# Altium schematic symbol library AI Gateway - Carrier.SCHLIB: 93 symbols
Pins are listed as number, name and electrical type; pins without a type are passive.

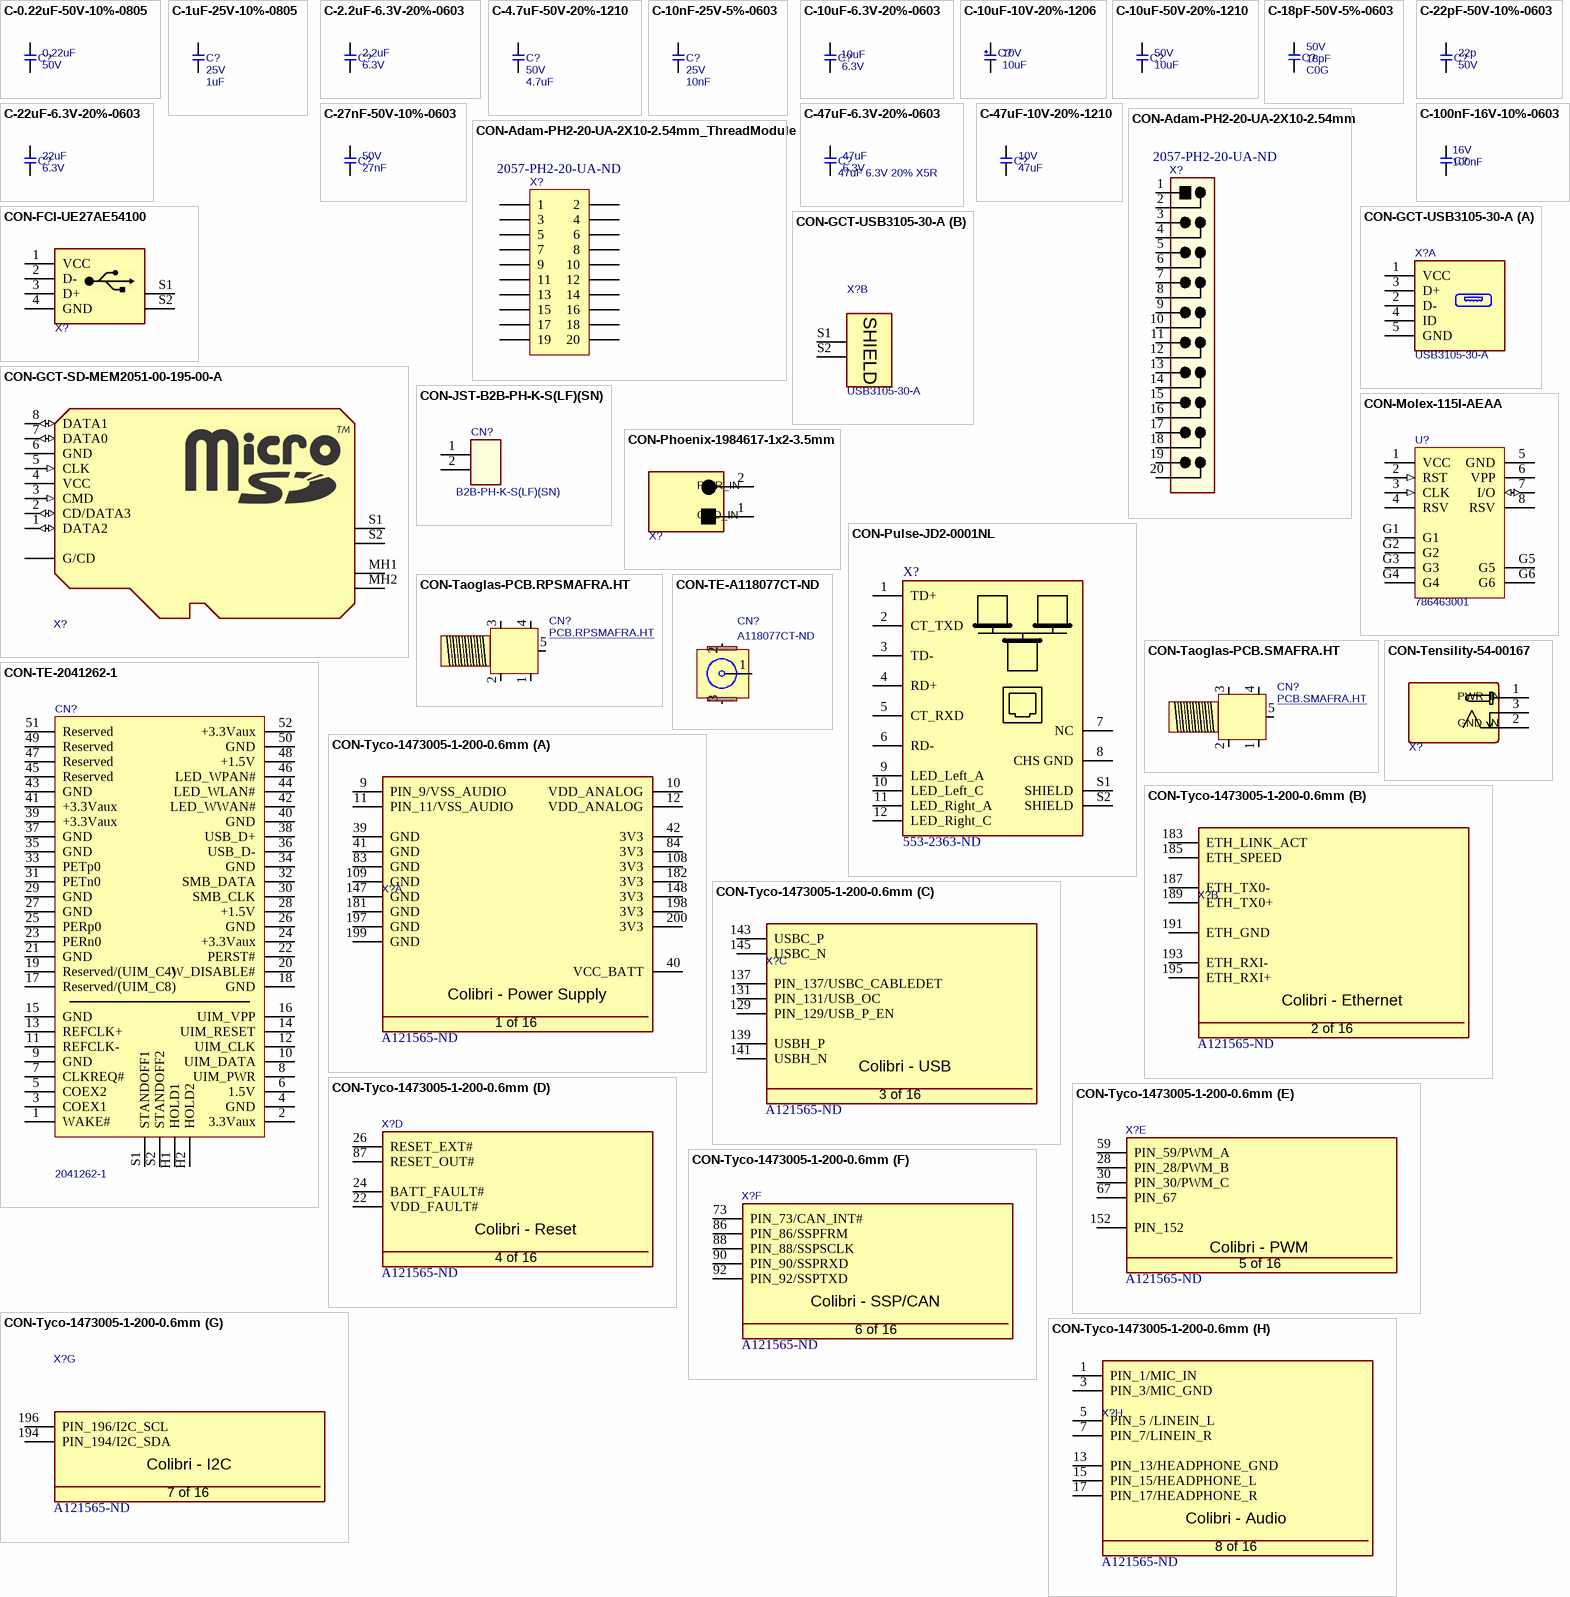
[diagram p0: symbols C-0.22uF-50V-10%-0805 to CON-Tyco-1473005-1-200-0.6mm]

## C-0.22uF-50V-10%-0805
designator C?, comment value 0.22uF  Rating: 50V  (hidden comment: 0.22uF 50V 10% X7R)
Capacitor Ceramic X7R 0.22uF 50V 10% 0805; FP_DESC: C0805; Tolerance: 10%; Type: X7R; Supplier 1: Digi-Key; Supplier Part Number 1: 1276-1093-1-ND; MFG_PN: *; MFG: *
footprint T_CAPC0805X125N
pins: 1, 2

## C-1uF-25V-10%-0805
designator C?, comment value 1uF  Rating: 25V  (hidden comment: 1uF 25V 10% X7R)
Capacitor Ceramic X7R 1uF 25V 10% 0805; FP_DESC: C0805; Tolerance: 10%; Type: X7R; Supplier 1: Digi-Key; Supplier Part Number 1: 399-8004-1-ND; MFG: *; MFG_PN: *
footprint T_CAPC0805X125N
pins: 1, 2

## C-2.2uF-6.3V-20%-0603
designator C?, comment value 2.2uF  Rating: 6.3V  (hidden comment: 2.2uF 6.3V 20% X5R)
Capacitor Ceramic X5R 2.2uF 6.3V 20% 0603; FP_DESC: C0603; Tolerance: 20%; Type: X5R; MFG: *; MFG_PN: *; Supplier 1: Digi-Key; Supplier Part Number 1: 311-1814-1-ND
footprint T_CAPC0603X33N
pins: 1, 2

## C-4.7uF-50V-20%-1210
designator C?, comment value 4.7uF  Rating: 50V  (hidden comment: 4.7uF 50V 20% X7R)
Capacitor Ceramic X7R 4.7uF 50V 20% 1206; Tolerance: 10%; FP_DESC: C1206; Type: X7R; Supplier 1: Digi-Key; Supplier Part Number 1: 1276-2789-1-ND; MFG: *; MFG_PN: *
footprint T_CAPC1206X180N (Ceramic Capacitor 1206 (3216 metric), max height 1.8mm)
pins: 1, 2

## C-10nF-25V-5%-0603
designator C?, comment value 10nF  Rating: 25V  (hidden comment: 10nF 25V 5% C0G)
Capacitor Ceramic C0G 10nF 25V 5% 0603; Tolerance: 10%; Type: X7R; Supplier 1: Digi-Key; Supplier Part Number 1: 399-7838-1-ND
footprint T_CAPC0603X33N
pins: 1, 2

## C-10uF-6.3V-20%-0603
designator C?, comment value 10uF  Rating: 6.3V  (hidden comment: 10uF 6.3V 20% X5R)
Capacitor Ceramic X5R 10uF 6.3V 20% 0603; Type: X7R; FP_DESC: C0603; Tolerance: 20%; Supplier 1: Digi-Key; MFG: *; MFG_PN: *; Supplier Part Number 1: 490-3896-1-ND
footprint T_CAPC0603X33N
pins: 1, 2

## C-10uF-10V-20%-1206
designator C?, comment value 10uF  Rating: 10V  (hidden comment: 10uF 10V 20% Tantalum)
Capacitor Tantalum 10uF 10V 20% 1206; FP_DESC: C1206; Tolerance: 20%; Type: Tantalum; Supplier 1: Digi-Key; MFG: *; MFG_PN: *; Supplier Part Number 1: 478-1657-1-ND
footprint T_CAPC1206X180N (Ceramic Capacitor 1206 (3216 metric), max height 1.8mm)
pins: 1, 2

## C-10uF-50V-20%-1210
designator C?, comment value 10uF  Rating: 50V  (hidden comment: 10uF 50V 20% X5R)
Capacitor Ceramic X5R 10uF 50V 20% 1210; Type: X7R; FP_DESC: C1210; Tolerance: 20%; Supplier 1: Digi-Key; Supplier Part Number 1: 587-2225-1-ND; Footprint: C1210; MFG: *; MFG_PN: *
footprint CAPC3225X160N
pins: 1, 2

## C-18pF-50V-5%-0603
designator C?, comment value 18pF  Rating: 50V  Type: C0G  (hidden comment: 18pF 50V 5% C0G)
Capacitor Ceramic C0G 18pF 50V 5% 0603; FP_DESC: C0603; Tolerance: 5%; Supplier 1: Digi-Key; Supplier Part Number 1: 311-1061-1-ND; MFG: *; MFG_PN: *
footprint T_CAPC0603X33N
pins: 1, 2

## C-22pF-50V-10%-0603
designator C?, comment value 22p  Rating: 50V  (hidden comment: 22pF 50V 10% C0G)
Capacitor Ceramic C0G 22pF 50V 10% 0603; FP_DESC: C0603; Tolerance: 10%; Type: C0G; MFG: *; MFG_PN: *; Supplier 1: Digi-Key; Supplier Part Number 1: 478-7914-1-ND
footprint T_CAPC0603X33N
pins: 1, 2

## C-22uF-6.3V-20%-0603
designator C?, comment value 22uF  Rating: 6.3V  (hidden comment: 22uF 6.3V 20% X5R)
Capacitor Ceramic X5R 22uF 6.3V 20% 0603; FP_DESC: C0603; Tolerance: 20%; Type: X5R; Supplier 1: Digi-Key; Supplier Part Number 1: 445-8028-1-ND; MFG: *; MFG_PN: *
footprint T_CAPC0603X33N
pins: 1, 2

## C-27nF-50V-10%-0603
designator C?, comment value 27nF  Rating: 50V  (hidden comment: 27nF 50V 20% X7R)
Capacitor Ceramic X7R 27nF 50V 10% 0603; FP_DESC: C0603; Tolerance: 10%; Type: X7R; Supplier 1: Digi-Key; Supplier Part Number 1: 1276-2025-1-ND; MFG: *; MFG_PN: *
footprint T_CAPC0603X33N
pins: 1, 2

## C-47uF-6.3V-20%-0603
designator C?, comment 47uF 6.3V 20% X5R  value 47uF  Rating: 6.3V
Capacitor Ceramic X5R 47uF 6.3V 20% 0603; FP_DESC: C0603; Tolerance: 20%; Type: X5R; Supplier 1: Digi-Key; Supplier Part Number 1: 490-13247-1-ND; MFG: *; MFG_PN: *
footprint T_CAPC0603X33N
pins: 1, 2

## C-47uF-10V-20%-1210
designator C?, comment value 47uF  Rating: 10V  (hidden comment: 47uF 10V 20% X5R)
Capacitor Ceramic X5R 47uF 10V 20% 1210; FP_DESC: C1210; Tolerance: 20%; Type: X5R; Supplier 1: Digi-Key; Supplier Part Number 1: 445-6711-1-ND; MFG: *; MFG_PN: *
footprint CAPC3225X160N
pins: 1, 2

## C-100nF-16V-10%-0603
designator C?, comment value 100nF  Rating: 16V  (hidden comment: 100nF 16V 10% X7R)
Capacitor Ceramic X7R 100nF 16V 10% 0603; FP_DESC: C0402; Tolerance: 10%; Type: X7R; Supplier 1: Digi-Key; Footprint Checked: -; Supplier Part Number 1: 1276-1001-1-ND; MFG: *; MFG_PN: *
footprint CAPC1005X60N
pins: 1, 2

## CON-Adam-PH2-20-UA-2X10-2.54mm
designator X?, comment Supplier Part Number 1: 2057-PH2-20-UA-ND  (hidden comment: PH2-20-UA)
Connector Header Through Hole 20 position 0.100" (2.54mm); No. of ways: 2X20; MFG: FCI; MFG_PN: 68691-420HLF; Footprint Checked: -; Symbol Checked: -; Supplier 1: Digi-Key
footprint T_JVE_21B22564-40S10B-01G (Header 2x20)
pins: 1, 2, 3, 4, 5, 6, 7, 8, 9, 10, 11, 12, 13, 14, 15, 16, 17, 18, 19, 20

## CON-Adam-PH2-20-UA-2X10-2.54mm_ThreadModule
designator X?, comment Supplier Part Number 1: 2057-PH2-20-UA-ND  (hidden comment: PH2-20-UA)
Connector Header Through Hole 20 position 0.100" (2.54mm); No. of ways: 2X20; MFG: FCI; MFG_PN: 68691-420HLF; System: Connector; Footprint Checked: -; Symbol Checked: -; Supplier 1: Digi-Key
footprint T_JVE_21B22564-40S10B-01G - ThreadModule (Header 2x20)
pins: 1, 2, 3, 4, 5, 6, 7, 8, 9, 10, 11, 12, 13, 14, 15, 16, 17, 18, 19, 20

## CON-FCI-UE27AE54100
designator X?, comment UE27AE54100  (value not drawn)
USB Type A Connector; Manufacturer Name: FCI; No. of ways: 4; Supplier 1: Digi-Key; Supplier Part Number 1: UE27AE54100-ND; Manufacturer Part No.: UE27AE54100
footprint T_FCI_UE27AE54100 (USB Type A Connector Vertical)
pins: 1 VCC (power), 2 D-, 3 D+, 4 GND (power), S1, S2

## CON-GCT-SD-MEM2051-00-195-00-A
designator X?, comment MEM2051-00-195-00-A  (value not drawn)
9 (8 + 1) Position Card Connector microSD™ Surface Mount, Right Angle Gold; No. of ways: 9; MFG: GCT; MFG_PN: MEM2051-00-195-00-A; Footprint Checked: -; Symbol Checked: -; Supplier 1: DigiKey; Supplier Part Number 1: 2073-MEM2051-00-195-00-ACT-ND
footprint 101-00660-68-6+MEM2051-00-195-00-A_REVC (FCI microSD connector)
pins: 1 DATA2 (io), 2 CD/DATA3 (io), 3 CMD (in), 4 VCC, 5 CLK (in), 6 GND (power), 7 DATA0 (io), 8 DATA1 (io), G1 G/CD, MH1 S, MH2 S, S1, S2

## CON-GCT-USB3105-30-A
designator X?, comment USB3105-30-A
Micro USB OTG Connector - TH - Vertical; No. of ways: 5; MFG: GCT; Footprint Checked: -; MFG_PN: USB3105-30-A; Symbol Checked: -; Supplier 1: Digi-Key; Supplier Part Number 1: 2073-USB3105-30-ACT-ND
footprint T_GCT_USB3105-30-A (Micro USB Connector Vertical)
part A pins: 1 VCC (power), 2 D-, 3 D+, 4 ID, 5 GND (power)
part B pins: S1 SHIELD, S2 SHIELD

## CON-JST-B2B-PH-K-S(LF)(SN)
designator CN?, comment B2B-PH-K-S(LF)(SN)
Connector Header Through Hole 2 position 0.079" (2.00mm); MFG: JST; FP_DESC: Header, Male pins, 1x2, 2mm, Vertical; Symbol Checked: Ok; MFG_PN: B2B-PH-K-S(LF)(SN); Footprint Checked: Assign OK, Footprint OK; Supplier 1: Digi-Key; Supplier Part Number 1: 455-1704-ND
footprint B2B-PH-K-S(LF)(SN) - duplicate
pins: 1, 2

## CON-Molex-115I-AEAA
designator U?, comment 786463001
Micro SIM Card Push-Pull; FP_DESC: microSIM card holder; MFG: MOLEX; Symbol Checked: Ok; Replacement Allowed: Ask; MFG_PN: 786463001; Footprint Checked: Assign OK, Footprint OK; Supplier 1: Digi-Key; Supplier Part Number 1: WM9364CT-ND
footprint 786463001
pins: 1 VCC (power), 2 RST (in), 3 CLK (in), 4 RSV, 5 GND (power), 6 VPP (power), 7 I/O (io), 8 RSV, G1, G2, G3, G4, G5, G6

## CON-Phoenix-1984617-1x2-3.5mm
designator X?, comment 1984617  (value not drawn)
2 Position Wire to Board Terminal Block Horizontal with Board 0.138" (3.50mm) Through Hole; No. of ways: 1x2; Pitch: 3.5mm; MFG: Phoenix Contact; Supplier 1: Digi-Key; Supplier Part Number 1: 277-1721-ND; Footprint Checked: -; MFG_PN: 1984617; Symbol Checked: -
footprint TERM-BLK-3.5MM
pins: 1 GND_IN, 2 PWR_IN

## CON-Pulse-JD2-0001NL
designator X?, comment Supplier Part Number 1: 553-2363-ND  (hidden comment: JD2-0001NL)
1 Port RJ45 Magjack Connector Through Hole 10/100 Base-TX, AutoMDIX; MFG: Pulse Electronics Network; MFG_PN: J00-0065NL; Footprint Checked: -; Symbol Checked: -; Supplier 1: Digi-Key
footprint T_PULSE_JD2-0001NL (RJ45 Connector)
pins: 1 TD+, 2 CT_TXD, 3 TD-, 4 RD+, 5 CT_RXD, 6 RD-, 7 NC, 8 CHS GND, 9 LED_Left_A, 10 LED_Left_C, 11 LED_Right_A, 12 LED_Right_C, S1 SHIELD, S2 SHIELD

## CON-Taoglas-PCB.RPSMAFRA.HT
designator CN?, comment PCB.RPSMAFRA.HT
RP-SMA Conector Jack, clavija macho 50Ohm Orificio pasante, ángulo recto Soldadura; FP_DESC: SMA, Right angle; MFG: Taoglas Limited; Symbol Checked: Ok; MFG_PN: PCB.SMAFRA.HT; Footprint Checked: Assign OK, Footprint OK; Supplier 1: Digi-Key; Supplier Part Number 1: 931-1360-ND
footprint 0733910320 (RPSMA)
pins: 1 GND, 2 GND, 3 GND, 4 GND, 5 SIG

## CON-Taoglas-PCB.SMAFRA.HT
designator CN?, comment PCB.SMAFRA.HT
SMA Connector Jack, Female Socket 50Ohm Through Hole, Right Angle Solder; FP_DESC: SMA, Right angle; MFG: Taoglas Limited; Symbol Checked: Ok; Footprint Checked: Assign OK, Footprint OK; Supplier 1: Digi-Key; Supplier Part Number 1: 931-1361-ND; MFG_PN: PCB.SMAFRA.HT
footprint 0733910320 (RPSMA)
pins: 1 GND, 2 GND, 3 GND, 4 GND, 5 SIG

## CON-TE-2041262-1
designator CN?, comment 2041262-1
52 Position Female Connector PCI Express Mini Card Gold 0.031" (0.80mm) Black; FP_DESC: miniPCIe; MFG: TE; Symbol Checked: Ok; MFG_PN: 2041262-1; Footprint Checked: Assign OK, Footprint OK; Supplier 1: Digi-Key; Supplier Part Number 1: A125147CT-ND
footprint 2041262-1
pins: 1 WAKE#, 2 3.3Vaux, 3 COEX1, 4 GND, 5 COEX2, 6 1.5V, 7 CLKREQ#, 8 UIM_PWR, 9 GND, 10 UIM_DATA, 11 REFCLK-, 12 UIM_CLK, 13 REFCLK+, 14 UIM_RESET, 15 GND, 16 UIM_VPP, 17 Reserved/(UIM_C8), 18 GND, 19 Reserved/(UIM_C4), 20 W_DISABLE#, 21 GND, 22 PERST#, 23 PERn0, 24 +3.3Vaux, 25 PERp0, 26 GND, 27 GND, 28 +1.5V, 29 GND, 30 SMB_CLK, 31 PETn0, 32 SMB_DATA, 33 PETp0, 34 GND, 35 GND, 36 USB_D-, 37 GND, 38 USB_D+, 39 +3.3Vaux, 40 GND, 41 +3.3Vaux, 42 LED_WWAN#, 43 GND, 44 LED_WLAN#, 45 Reserved, 46 LED_WPAN#, 47 Reserved, 48 +1.5V, 49 Reserved, 50 GND, 51 Reserved, 52 +3.3Vaux, H1 HOLD1, H2 HOLD2, S1 STANDOFF1, S2 STANDOFF2

## CON-TE-A118077CT-ND
designator CN?, comment A118077CT-ND
U.FL (UMCC) Connector Jack, Male Pin 50Ohm Surface Mount Solder; MFG: TE Connectivity AMP Connectors; FP_DESC: U.FL connector; Symbol Checked: Ok; MFG_PN: A118077CT-ND; Footprint Checked: Assign OK, Footprint OK; Supplier 1: Digi-Key; Supplier Part Number 1: A118077DKR-ND
footprint U.FL-R-SMT-1
pins: 1 SIG, 2 GND, 3 GND

## CON-Tensility-54-00167
designator X?, comment 54-00167  (value not drawn)
Power Barrel Connector Jack 2.50mm ID (0.098"), 5.50mm OD (0.217") Through Hole, Right Angle; MFG: Tensility International Corp; Supplier 1: Digi-Key; Supplier Part Number 1: 839-54-00167-ND; Footprint Checked: -; MFG_PN: 54-00167; Symbol Checked: -
footprint PJ-002A
pins: 1 GND_IN, 2 PWR_IN, 3 PWR_IN

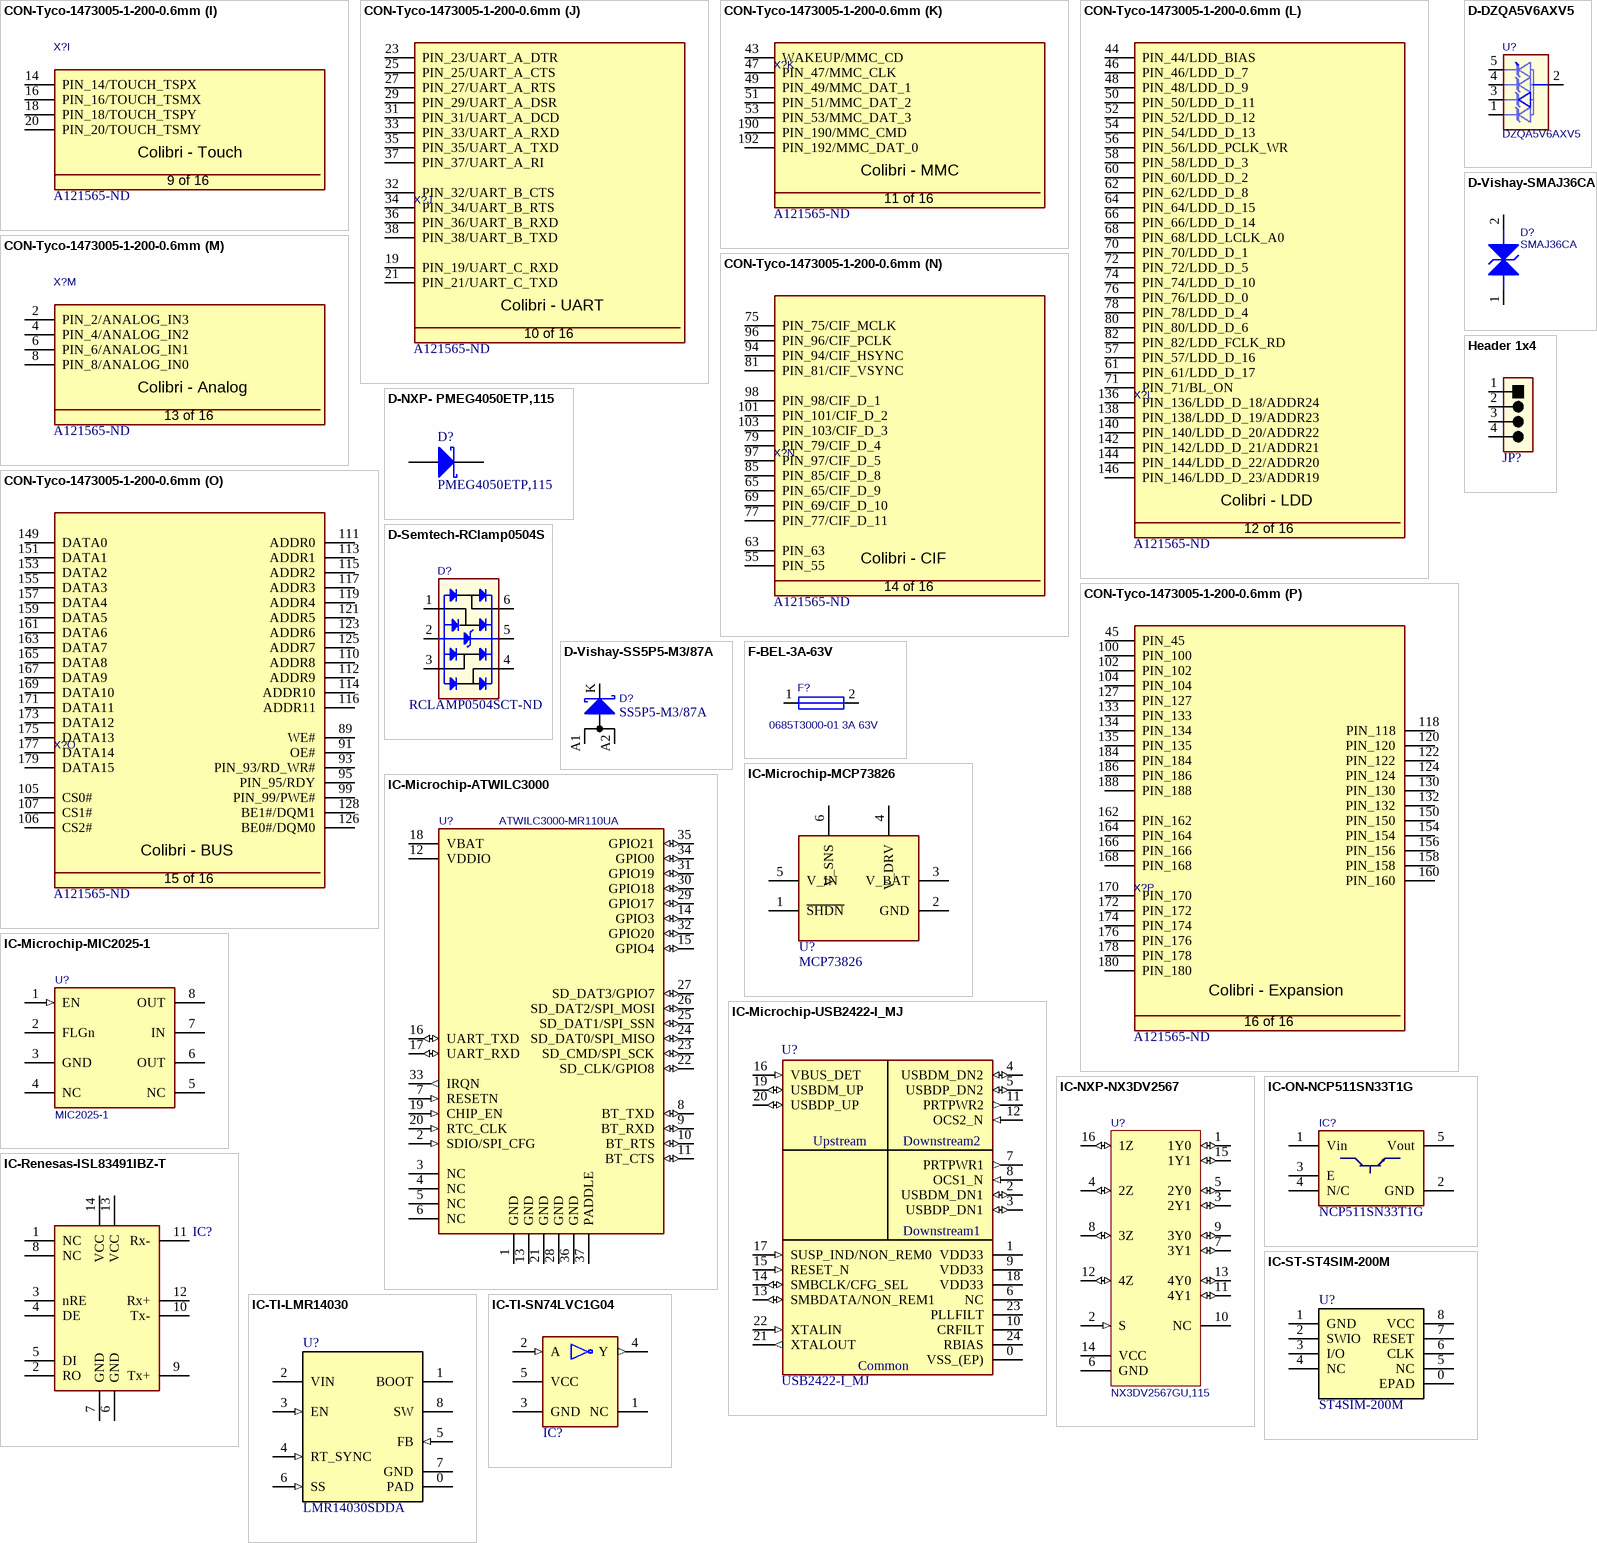
[diagram p1: symbols CON-Tyco-1473005-1-200-0.6mm to IC-TI-SN74LVC1G04]

## CON-Tyco-1473005-1-200-0.6mm
designator X?, comment Supplier Part Number 1: A121565-ND  (hidden comment: 1473005-1)
SODIMM Connector; Manufacturer Name: Tyco; No. of ways: 200; Supplier 1: Digi-Key; Manufacturer Part No.: 1473005-1
footprint T_Tyco_1473005-1 (SODIMM Connector)
footprint T_Tyco_1612618-1 (SODIMM Connector)
part A pins: 9 PIN_9/VSS_AUDIO, 10 VDD_ANALOG, 11 PIN_11/VSS_AUDIO, 12 VDD_ANALOG, 39 GND (power), 40 VCC_BATT (power), 41 GND (power), 42 3V3 (power), 83 GND (power), 84 3V3 (power), 108 3V3, 109 GND (power), 147 GND (power), 148 3V3, 181 GND (power), 182 3V3 (power), 197 GND (power), 198 3V3 (power), 199 GND (power), 200 3V3 (power)
part B pins: 183 ETH_LINK_ACT, 185 ETH_SPEED, 187 ETH_TX0-, 189 ETH_TX0+, 191 ETH_GND, 193 ETH_RXI-, 195 ETH_RXI+
part C pins: 129 PIN_129/USB_P_EN, 131 PIN_131/USB_OC, 137 PIN_137/USBC_CABLEDET, 139 USBH_P, 141 USBH_N, 143 USBC_P, 145 USBC_N
part D pins: 22 VDD_FAULT#, 24 BATT_FAULT#, 26 RESET_EXT#, 87 RESET_OUT#
part E pins: 28 PIN_28/PWM_B, 30 PIN_30/PWM_C, 59 PIN_59/PWM_A, 67 PIN_67, 152 PIN_152
part F pins: 73 PIN_73/CAN_INT#, 86 PIN_86/SSPFRM, 88 PIN_88/SSPSCLK, 90 PIN_90/SSPRXD, 92 PIN_92/SSPTXD
part G pins: 194 PIN_194/I2C_SDA, 196 PIN_196/I2C_SCL
part H pins: 1 PIN_1/MIC_IN, 3 PIN_3/MIC_GND, 5 PIN_5 /LINEIN_L, 7 PIN_7/LINEIN_R, 13 PIN_13/HEADPHONE_GND, 15 PIN_15/HEADPHONE_L, 17 PIN_17/HEADPHONE_R
part I pins: 14 PIN_14/TOUCH_TSPX, 16 PIN_16/TOUCH_TSMX, 18 PIN_18/TOUCH_TSPY, 20 PIN_20/TOUCH_TSMY
part J pins: 19 PIN_19/UART_C_RXD, 21 PIN_21/UART_C_TXD, 23 PIN_23/UART_A_DTR, 25 PIN_25/UART_A_CTS, 27 PIN_27/UART_A_RTS, 29 PIN_29/UART_A_DSR, 31 PIN_31/UART_A_DCD, 32 PIN_32/UART_B_CTS, 33 PIN_33/UART_A_RXD, 34 PIN_34/UART_B_RTS, 35 PIN_35/UART_A_TXD, 36 PIN_36/UART_B_RXD, 37 PIN_37/UART_A_RI, 38 PIN_38/UART_B_TXD
part K pins: 43 WAKEUP/MMC_CD, 47 PIN_47/MMC_CLK, 49 PIN_49/MMC_DAT_1, 51 PIN_51/MMC_DAT_2, 53 PIN_53/MMC_DAT_3, 190 PIN_190/MMC_CMD, 192 PIN_192/MMC_DAT_0
part L pins: 44 PIN_44/LDD_BIAS, 46 PIN_46/LDD_D_7, 48 PIN_48/LDD_D_9, 50 PIN_50/LDD_D_11, 52 PIN_52/LDD_D_12, 54 PIN_54/LDD_D_13, 56 PIN_56/LDD_PCLK_WR, 57 PIN_57/LDD_D_16, 58 PIN_58/LDD_D_3, 60 PIN_60/LDD_D_2, 61 PIN_61/LDD_D_17, 62 PIN_62/LDD_D_8, 64 PIN_64/LDD_D_15, 66 PIN_66/LDD_D_14, 68 PIN_68/LDD_LCLK_A0, 70 PIN_70/LDD_D_1, 71 PIN_71/BL_ON, 72 PIN_72/LDD_D_5, 74 PIN_74/LDD_D_10, 76 PIN_76/LDD_D_0, 78 PIN_78/LDD_D_4, 80 PIN_80/LDD_D_6, 82 PIN_82/LDD_FCLK_RD, 136 PIN_136/LDD_D_18/ADDR24, 138 PIN_138/LDD_D_19/ADDR23, 140 PIN_140/LDD_D_20/ADDR22, 142 PIN_142/LDD_D_21/ADDR21, 144 PIN_144/LDD_D_22/ADDR20, 146 PIN_146/LDD_D_23/ADDR19
part M pins: 2 PIN_2/ANALOG_IN3, 4 PIN_4/ANALOG_IN2, 6 PIN_6/ANALOG_IN1, 8 PIN_8/ANALOG_IN0
part N pins: 55 PIN_55, 63 PIN_63, 65 PIN_65/CIF_D_9, 69 PIN_69/CIF_D_10, 75 PIN_75/CIF_MCLK, 77 PIN_77/CIF_D_11, 79 PIN_79/CIF_D_4, 81 PIN_81/CIF_VSYNC, 85 PIN_85/CIF_D_8, 94 PIN_94/CIF_HSYNC, 96 PIN_96/CIF_PCLK, 97 PIN_97/CIF_D_5, 98 PIN_98/CIF_D_1, 101 PIN_101/CIF_D_2, 103 PIN_103/CIF_D_3
part O pins: 89 WE#, 91 OE#, 93 PIN_93/RD_WR#, 95 PIN_95/RDY, 99 PIN_99/PWE#, 105 CS0#, 106 CS2#, 107 CS1#, 110 ADDR8, 111 ADDR0, 112 ADDR9, 113 ADDR1, 114 ADDR10, 115 ADDR2, 116 ADDR11, 117 ADDR3, 119 ADDR4, 121 ADDR5, 123 ADDR6, 125 ADDR7, 126 BE0#/DQM0, 128 BE1#/DQM1, 149 DATA0, 151 DATA1, 153 DATA2, 155 DATA3, 157 DATA4, 159 DATA5, 161 DATA6, 163 DATA7, 165 DATA8, 167 DATA9, 169 DATA10, 171 DATA11, 173 DATA12, 175 DATA13, 177 DATA14, 179 DATA15
part P pins: 45 PIN_45, 100 PIN_100, 102 PIN_102, 104 PIN_104, 118 PIN_118, 120 PIN_120, 122 PIN_122, 124 PIN_124, 127 PIN_127, 130 PIN_130, 132 PIN_132, 133 PIN_133, 134 PIN_134, 135 PIN_135, 150 PIN_150, 154 PIN_154, 156 PIN_156, 158 PIN_158, 160 PIN_160, 162 PIN_162, 164 PIN_164, 166 PIN_166, 168 PIN_168, 170 PIN_170, 172 PIN_172, 174 PIN_174, 176 PIN_176, 178 PIN_178, 180 PIN_180, 184 PIN_184, 186 PIN_186, 188 PIN_188
part A text: Colibri - Power Supply; 1 of 16
part B text: Colibri - Ethernet; 2 of 16
part C text: Colibri - USB; 3 of 16
part D text: Colibri - Reset; 4 of 16
part E text: Colibri - PWM; 5 of 16
part F text: Colibri - SSP/CAN; 6 of 16
part G text: Colibri - I2C; 7 of 16
part H text: Colibri - Audio; 8 of 16
part I text: Colibri - Touch; 9 of 16
part J text: Colibri - UART; 10 of 16
part K text: Colibri - MMC; 11 of 16
part L text: Colibri - LDD; 12 of 16
part M text: Colibri - Analog; 13 of 16
part N text: Colibri - CIF; 14 of 16
part O text: Colibri - BUS; 15 of 16
part P text: Colibri - Expansion; 16 of 16

## D-DZQA5V6AXV5
designator U?, comment DZQA5V6AXV5
13V Clamp 2.5A (8/20µs) Ipp Tvs Diode Surface Mount 5-TSSOP; FP_DESC: SOT553; MFG: DIODES; Symbol Checked: Ok; MFG_PN: DZQA5V6AXV5; Footprint Checked: Assign OK, Footprint OK; Supplier 1: Digi-Key; Supplier Part Number 1: DZQA5V6AXV5DICT-ND
footprint SOTFL50P162X62-5N (SOTFL,0.50mm,pitch;5 pin,1.175mm W X 1.60mm L X 0.62mm H body)
pins: 1, 2, 3, 4, 5

## D-NXP- PMEG4050ETP,115
designator D?, comment PMEG4050ETP,115
Diode Schottky 40V 5A Surface Mount CFP5; MFG: Nexperia USA Inc.; Supplier 1: Digi-Key; Supplier Part Number 1: 1727-1732-1-ND; Footprint Checked: -; MFG_PN: PMEG4050ETP,115; Symbol Checked: -
footprint D_SOD128 (Bidirectional ESD protection)
pins: 1 K, 2 A

## D-Semtech-RClamp0504S
designator D?, comment Supplier Part Number 1: RCLAMP0504SCT-ND  (hidden comment: RCLAMP0504S)
TVS Array low cap; MFG: Semtech; Supplier 1: Digi-Key; Footprint Checked: -; MFG_PN: RCLAMP0504S; Symbol Checked: -
footprint T_SOT95P285X90-6N
pins: 1, 2 (power), 3, 4, 5 (power), 6

## D-Vishay-SMAJ36CA
designator D?, comment SMAJ36CA
58.1V Clamp 6.9A Ipp Tvs Diode Surface Mount DO-214AC (SMA); MFG: Vishay; Symbol Checked: Ok; FP_DESC: SMA; MFG_PN: SMAJ36CA; Footprint Checked: Assign OK, Footprint OK; Supplier 1: Digi-Key; Supplier Part Number 1: SMAJ36CALFCT-ND
footprint T_LITTLEFUSE_SMAJ30CA (Bidirectional ESD protection)
pins: 1 ANODE, 2 CATHODE

## D-Vishay-SS5P5-M3/87A
designator D?, comment SS5P5-M3/87A
Diode Schottky, SS5P5-M3/87A, 50V(Vrrm), 5A(If); MFG: Vishay; MFG_PN: SS8P6C-M3/86A; Supplier 1: Digi-Key; Supplier Part Number 1: SS5P5-M3/87AGICT-ND; Footprint Checked: -; Symbol Checked: -
footprint T_DIOM_TO277A (Molded Diode, 3-Leads, Body 4.75x6.65mm, IPC Medium Density)
pins: A1, A2, K

## F-BEL-3A-63V
designator F?, comment 0685T3000-01 3A 63V
3A 63V AC 63V DC Fuse Board Mount (Cartridge Style Excluded) Surface Mount 1206 (3216 Metric); FP_DESC: R1206; MFG: BEL; POWER: 250mW; MFG_PN: 0685T3000-01; Footprint Checked: -; VALUE: 3A; Symbol Checked: -; Supplier 1: Digi-Key; Supplier Part Number 1: 507-1896-1-ND
footprint RESC3216N (1206; Resistor,Chip;3.15mm L X 1.60mm W X 0.60mm H)
pins: 1, 2

## Header 1x4
designator JP?, comment 61300411121  (value not drawn)
Header male, 1x4 Pins, 2.54 mm pitch; No. of ways: 1x2; Pitch: 2.54 mm; MFG: Würth Elektronik; Footprint Checked: -; MFG_PN: 61300411121; Symbol Checked: -; Supplier 1: Digi-Key; Supplier Part Number 1: 732-5317-ND
footprint Header 1x4, 2.54mm pitch, male
pins: 1, 2, 3, 4

## IC-Microchip-ATWILC3000
designator U?, comment ATWILC3000-MR110UA
BlueTooth, WiFi 802.11b/g/n, BlueTooth v4.0 Módulos de transceptor RF 2.4GHz Antena no incluida, U.FL Montaje en superficie; FP_DESC: ATWILC3000-MR110CA Module; MFG: MICROCHIP; Symbol Checked: M; Footprint Checked: -; MFG_PN: ATWILC3000-MR110UA; Supplier 1: Digi-Key; Supplier Part Number 1: ATWILC3000-MR110UA-ND
footprint ATWILC3000-MR110CA
pins: 1 GND (power), 2 SDIO/SPI_CFG (in), 3 NC, 4 NC, 5 NC, 6 NC, 7 RESETN (in), 8 BT_TXD (io), 9 BT_RXD (io), 10 BT_RTS (io), 11 BT_CTS (io), 12 VDDIO (power), 13 GND (power), 14 GPIO3 (io), 15 GPIO4 (io), 16 UART_TXD (io), 17 UART_RXD (io), 18 VBAT (power), 19 CHIP_EN (in), 20 RTC_CLK (in), 21 GND (power), 22 SD_CLK/GPIO8 (io), 23 SD_CMD/SPI_SCK (io), 24 SD_DAT0/SPI_MISO (io), 25 SD_DAT1/SPI_SSN (io), 26 SD_DAT2/SPI_MOSI (io), 27 SD_DAT3/GPIO7 (io), 28 GND (power), 29 GPIO17 (io), 30 GPIO18 (io), 31 GPIO19 (io), 32 GPIO20 (io), 33 IRQN (out), 34 GPIO0 (io), 35 GPIO21 (io), 36 GND (power), 37 PADDLE (power)

## IC-Microchip-MCP73826
designator U?, comment MCP73826
Charger IC Lithium Ion SOT-23-6; Symbol Checked: D; MFG: Microchip; MFG_PN: MCP73826-4.1VCHTR; Footprint Checked: -; Supplier 1: Digi-Key; Supplier Part Number 1: MCP73826-4.1VCHCT-ND
footprint SOT95P284X122-6N (SOT23, 6-Leads)
pins: 1 ~{SHDN}, 2 GND, 3 V_BAT, 4 V_DRV, 5 V_IN, 6 V_SNS

## IC-Microchip-MIC2025-1
designator U?, comment MIC2025-1
Power Switch/Driver 1:1 N-Channel 500mA 8-MSOP; Symbol Checked: T; MFG: Texas Instruments; Supplier 1: Digi-Key; Supplier Part Number 1: MIC2025-1YM-CT-ND; Footprint Checked: -; MFG_PN: MIC2025
footprint SOIC127P600X175-8N
pins: 1 EN (in), 2 FLGn (oc), 3 GND (power), 4 NC (hiz), 5 NC (hiz), 6 OUT (power), 7 IN (power), 8 OUT (power)

## IC-Microchip-USB2422-I_MJ
designator U?, comment USB2422-I_MJ
USB Hub Controller USB 2.0 USB Interface 24-QFN (4x4); Supplier 1: Digi-Key; Supplier Part Number 1: USB2422-I/MJ-ND; Footprint Checked: -; Symbol Checked: -
footprint QFN50P400X400X80-25N (QFN,0.50mm pitch,square;24 pin,4.00mm L X 4.00mm W X 0.75mm H body (w/thermal tab))
pins: 0 VSS_(EP) (power), 1 VDD33 (power), 2 USBDM_DN1 (io), 3 USBDP_DN1 (io), 4 USBDM_DN2 (io), 5 USBDP_DN2 (io), 6 NC, 7 PRTPWR1 (out), 8 OCS1_N (in), 9 VDD33 (power), 10 CRFILT, 11 PRTPWR2 (out), 12 OCS2_N (in), 13 SMBDATA/NON_REM1 (io), 14 SMBCLK/CFG_SEL (io), 15 RESET_N (in), 16 VBUS_DET (in), 17 SUSP_IND/NON_REM0 (in), 18 VDD33 (power), 19 USBDM_UP (io), 20 USBDP_UP (io), 21 XTALOUT (out), 22 XTALIN (in), 23 PLLFILT, 24 RBIAS
text: Upstream; Downstream2; Downstream1; Common

## IC-NXP-NX3DV2567
designator U?, comment NX3DV2567GU,115
Networking Switch IC 1 Channel 16-XQFN (1.8x2.6); MFG: NXP; FP_DESC: XFQFN-16; Symbol Checked: D; MFG_PN: NX3DV2567GU,115; Footprint Checked: -; Supplier 1: Digi-Key; Supplier Part Number 1: 568-5206-1-ND
footprint XFQFN-16 (Footprint not found)
pins: 1 1Y0 (io), 2 S (in), 3 2Y1 (io), 4 2Z (io), 5 2Y0 (io), 6 GND (power), 7 3Y1 (io), 8 3Z (io), 9 3Y0 (io), 10 NC, 11 4Y1 (io), 12 4Z (io), 13 4Y0 (io), 14 VCC (power), 15 1Y1 (io), 16 1Z (io)

## IC-ON-NCP511SN33T1G
designator IC?, comment NCP511SN33T1G
NCP511SN33T1G LDO Regulator; MFG: ON Semiconductor; Supplier 1: Digi-Key; Supplier Part Number 1: NCP511SN33T1GOSCT-ND; Footprint Checked: -; Symbol Checked: -; MFG_PN: NCP511SN33T1G
footprint SOT95P279X142-5N
pins: 1 Vin, 2 GND, 3 E, 4 N/C, 5 Vout

## IC-Renesas-ISL83491IBZ-T
designator IC?, comment ISL83491IBZ-T  (value not drawn)
Transceptor 1/1 Completo RS422, RS485 14-SOIC; MFG: Renesas Electronics America Inc; Supplier 1: Digi-Key; Supplier Part Number 1: ISL83491IBZ-TCT-ND; Symbol Checked: -; Footprint Checked: -; MFG_PN: ISL83491IBZ-T
footprint SOIC127P600X175-14N (SOIC 14 pin)
pins: 1 NC, 2 RO, 3 nRE, 4 DE, 5 DI, 6 GND, 7 GND, 8 NC, 9 Tx+, 10 Tx-, 11 Rx-, 12 Rx+, 13 VCC, 14 VCC

## IC-ST-ST4SIM-200M
designator U?, comment ST4SIM-200M
ESIM SYSTEM ON CHIP FOR M2M INDU; MFG: STMicroelectronics; MFG_PN: ST4SI2M0004TPIFW; Type: DEV; Footprint Checked: -; Symbol Checked: -
footprint SON_IM-200M_STM
footprint ST4SIM-200M
pins: 0 EPAD, 1 GND, 2 SWIO, 3 I/O, 4 NC, 5 NC, 6 CLK, 7 RESET, 8 VCC (power)

## IC-TI-LMR14030
designator U?, comment LMR14030SDDA
Buck Switching Regulator IC Positive Adjustable 0.8V 1 Output 3.5A 8-PowerSOIC (0.154", 3.90mm Width); Symbol Checked: DMT; MFG: Texas Instruments; Type: DEV; Value: Value; Supplier 1: Digi-Key; Supplier Part Number 1: 296-44321-1-ND; Footprint Checked: -
footprint SOIC127P600X175-9AN-2 (SOIC,1.27mm,pitch;8 pin,3.90mm W X 4.90mm L X 1.75mm H body (w/thermal tab))
pins: 0 PAD (power), 1 BOOT (power), 2 VIN (power), 3 EN (in), 4 RT_SYNC (in), 5 FB (in), 6 SS (in), 7 GND (power), 8 SW (power)

## IC-TI-SN74LVC1G04
designator IC?, comment SN74LVC1G04  (value not drawn)
IC INVERTER 1CH 1-INP SC70-5; MFG: Texas Instruments; Supplier 1: Digi-Key; Supplier Part Number 1: 296-11600-1-ND; Footprint Checked: -; MFG_PN: SN74LVC1G04; Symbol Checked: -
footprint SOT65P210X110-5N
pins: 1 NC, 2 A (in), 3 GND (power), 4 Y (out), 5 VCC (power)

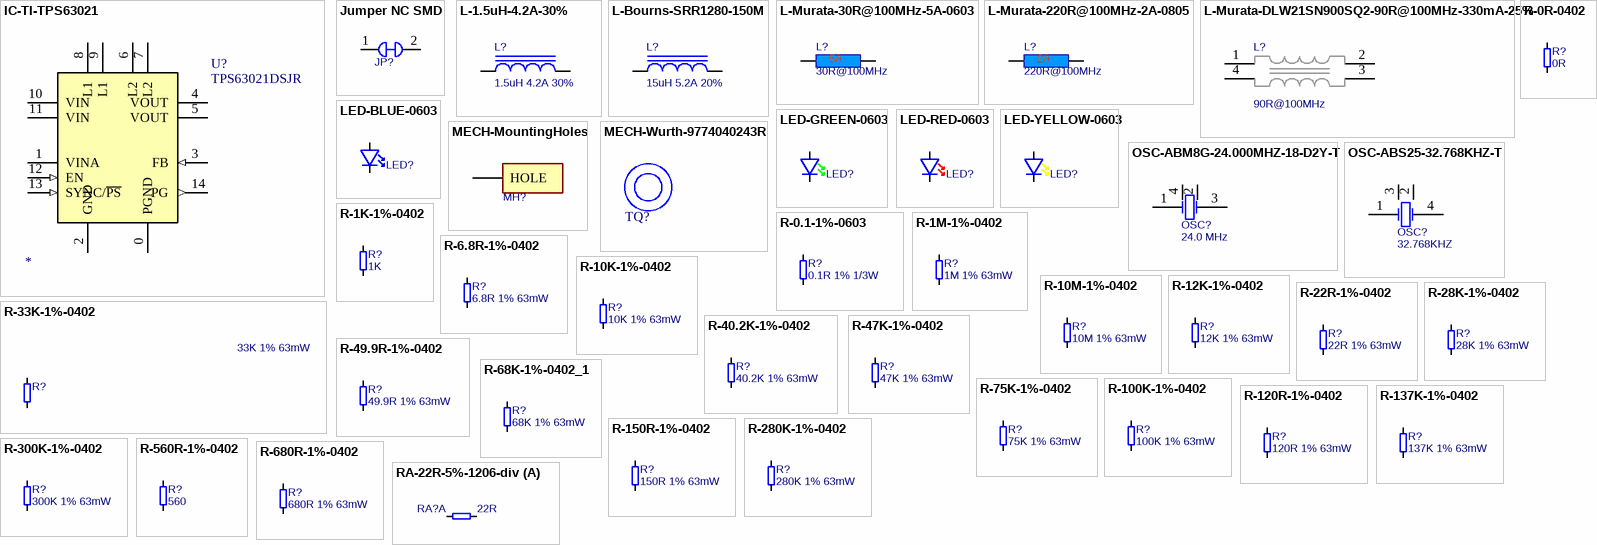
[diagram p2: symbols IC-TI-TPS63021 to RA-22R-5%-1206-div]

## IC-TI-TPS63021
designator U?, comment TPS63021DSJR
Buck-Boost Switching Regulator IC Positive Fixed 3.3V 1 Output 3.5A (Switch) 14-VFDFN Exposed Pad; MFG: Texas Instruments; Type: DEV; Value: Value; Supplier 1: Digi-Key; Supplier Part Number 1: 296-27259-1-ND; Footprint Checked: D; Symbol Checked: -; Parameter 1: *
footprint DSJ14_2P85X1P58
footprint Model Name (Model Description)
pins: 0 PGND, 1 VINA (power), 2 GND (power), 3 FB (in), 4 VOUT (power), 5 VOUT (power), 6 L2 (power), 7 L2 (power), 8 L1 (power), 9 L1 (power), 10 VIN (power), 11 VIN (power), 12 EN (in), 13 SYNC/~{PS} (in), 14 PG (out)

## Jumper NC SMD
designator JP?  (value not drawn)  (net tie, no BOM)
SMD jumper normally closed; Footprint Checked: -; Symbol Checked: -
footprint NC
pins: 1, 2

## L-1.5uH-4.2A-30%
designator L?, comment 1.5uH 4.2A 30%
Inductor Ferrite core 1.5uH 4.2A 30%; MFG: TAIYO YUDEN; FP_DESC: L1008; MFG_PN: NRS6028T1R5NMGJ; Footprint Checked: -; Symbol Checked: -; Value: 1.5uH; Supplier 1: Digi-Key; Supplier Part Number 1: 587-2937-1-ND
footprint L_NR6028
pins: 1, 2

## L-Bourns-SRR1280-150M
designator L?, comment 15uH 5.2A 20%
FIXED IND 15UH 5.2A 28.5MOHM SMD; MFG: Bourns Inc.; FP_DESC: Non Standard; MFG_PN: SRR1280-150M; Footprint Checked: -; Symbol Checked: -; Value: 15uH; Supplier 1: Digi-Key; Supplier Part Number 1: SRR1280-150MCT-ND
footprint T_INDM125125X80N (Inductor shielded, 12.5mm X 12.5mm)
pins: 1, 2

## L-Murata-30R@100MHz-5A-0603
designator L?, comment value 30R@100MHz  (hidden comment: BLM18KG300TN1D)
30 Ohms @ 100MHz 1 Power Line Ferrite Bead 0603 (1608 Metric) 5A 10mOhm; Rating: 4A; Tolerance: 25%; MFG: EXC-ML20A390U; Supplier 1: Digi-Key; Supplier Part Number 1: 490-5447-1-ND; Footprint Checked: Ok, Assign Ok; Symbol Checked: -
footprint INDC1608X95N (Chip Inductor, Body 1.6x0.8mm, IPC Medium Density)
pins: 1, 2
text: 5A

## L-Murata-220R@100MHz-2A-0805
designator L?, comment value 220R@100MHz  (hidden comment: BLM21PG221SN1D)
220 Ohms @ 100MHz 1 Power Line Ferrite Bead 0805 (2012 Metric) 2A 45mOhm; Rating: 4A; Tolerance: 25%; MFG: EXC-ML20A390U; Supplier 1: Digi-Key; Supplier Part Number 1: 490-1054-1-ND; Footprint Checked: -; Symbol Checked: -
footprint INDC2012X140N (Chip Inductor, Body 2.0x1.3mm, IPC Medium Density)
pins: 1, 2
text: 2A

## L-Murata-DLW21SN900SQ2-90R@100MHz-330mA-25%
designator L?, comment value 90R@100MHz  (hidden comment: DLW21SN900SQ2)
Common Mode Choke High Speed 90R 330mA; Tolerance: 25%; MFG: Murata; Rating: 330mA; Supplier 1: Digi-Key; Supplier Part Number 1: 490-5137-1-ND; Footprint Checked: -; MFG_PN: DLW21SN900SQ2; Symbol Checked: -
footprint T_Murata_DLW21SN900SQ2 (Common Mode Choke)
pins: 1, 2, 3, 4

## LED-BLUE-0603
designator LED?, comment 150060BS75000  (value not drawn)
Blue 470nm LED Indication - Discrete 3.2V 0603 (1608 Metric); MFG: Würth Elektronik; MFG_PN: 150060BS75000; Color: Blue; Footprint Checked: -; Symbol Checked: -; Supplier 1: Digi-Key; Supplier Part Number 1: 732-4966-1-ND
footprint LEDC1608X80N
pins: 1, 2

## LED-GREEN-0603
designator LED?, comment 150060GS75000  (value not drawn)
Green 520nm LED Indication - Discrete 3.2V 0603 (1608 Metric); MFG: Würth Elektronik; MFG_PN: 150060GS75000; Color: Green; Footprint Checked: -; Symbol Checked: -; Supplier 1: Digi-Key; Supplier Part Number 1: 732-4971-1-ND
footprint LEDC1608X80N
pins: 1, 2

## LED-RED-0603
designator LED?, comment 150060RS75000  (value not drawn)
Red 625nm LED Indication - Discrete 2V 0603 (1608 Metric); MFG: Würth Elektronik; MFG_PN: 150060RS75000; Color: Red; Footprint Checked: -; Symbol Checked: -; Supplier 1: Digi-Key; Supplier Part Number 1: 732-4978-1-ND
footprint LEDC1608X80N
pins: 1, 2

## LED-YELLOW-0603
designator LED?, comment 150060YS75000  (value not drawn)
Yellow 590nm LED Indication - Discrete 2V 0603 (1608 Metric); MFG: Würth Elektronik; MFG_PN: 150060YS75000; Color: Yellow; Footprint Checked: -; Symbol Checked: -; Supplier 1: Digi-Key; Supplier Part Number 1: 732-4981-1-ND
footprint LEDC1608X80N
pins: 1, 2

## MECH-MountingHoles
designator MH?  (value not drawn)  (no BOM)
PCB Mounting Holes, hole diemeter = 3.2mm, pad diameter = 6.2mm; Footprint Checked: -; Symbol Checked: -
footprint T_MountingHoles (PCB Mounting Holes)
pins: 1 HOLE

## MECH-Wurth-9774040243R
designator TQ?, comment 9774040243R  (value not drawn)  (mechanical)
ROUND STANDOFF M2X0.4 STEEL 4MM; MFG: Wurth; Footprint Checked: -; Symbol Checked: -; MFG_PN: 9774040243R; Supplier 1: Digi-Key; Supplier Part Number 1: 732-7090-1-ND

## OSC-ABM8G-24.000MHZ-18-D2Y-T
designator OSC?, comment value 24.0 MHz  (hidden comment: CRYSTAL 24.0000MHZ 18PF SMD)
24MHz ±20ppm Crystal 18pF 60 Ohms 4-SMD, No Lead; Tolerance: 30ppm; MFG: HORIZON; MFG_PN: HEX24-24000MHz-18-50R-F-H2-T2-W2-T; Supplier 1: Digi-Key; Supplier Part Number 1: 535-10273-1-ND; Footprint Checked: -; Symbol Checked: -
footprint XTAL3.2x2.5
pins: 1 OSC1, 2, 3 OSC2, 4

## OSC-ABS25-32.768KHZ-T
designator OSC?, comment value 32.768KHZ  (hidden comment: CRYSTAL 32.7680KHZ 12.5PF SMD)
32.768kHz ±20ppm Cristal 12.5pF  4-SOJ, 5.50mm step; MFG: ABRACON; MFG_PN: ABS25-32.768KHZ-T; Tolerance: 20ppm; Supplier 1: Digi-Key; Supplier Part Number 1: 535-9166-1-ND; Footprint Checked: -; Symbol Checked: -
footprint OSC_ABRACON_ABS25 (OSC)
pins: 1 OSC1, 2, 3, 4 OSC4

## R-0.1-1%-0603
designator R?, comment 0.1R 1% 1/3W
Resistor 0.1ohm 1/3W 1% 0603; Power: 1/3; MFG: <GENERIC>; Tolerance: 1%; Value: 0.1R; Footprint: R0603; Supplier 1: Digi-Key; Supplier Part Number 1: P17478CT-ND; Footprint Checked: -; Symbol Checked: -; MFG_PN: <GENERIC>
footprint RESC1608N (Chip Resistor, Body 1.6x0.8mm, IPC Medium Density)
pins: 1, 2

## R-0R-0402
designator R?, comment 0R
Resistor 0ohm 0402; Tolerance: 1%; MFG: <GENERIC>; Power: ?; Value: 0R; Footprint: R0402; Footprint Checked: -; MFG_PN: <GENERIC>; Symbol Checked: -; Supplier 1: Digi-Key; Supplier Part Number 1: 541-2952-1-ND
footprint RESC1005X40N
pins: 1, 2

## R-1K-1%-0402
designator R?, comment value 1K  (hidden comment: 1K 1% 63mW)
Resistor 1Kohm 63mW 1% 0402; MFG: <GENERIC>; Tolerance: 1%; Power: 63mW; Footprint: R0402; Footprint Checked: -; MFG_PN: <GENERIC>; Symbol Checked: -; Supplier 1: Digi-Key; Supplier Part Number 1: 541-1.00KLCT-ND
footprint RESC1005X40N
pins: 1, 2

## R-1M-1%-0402
designator R?, comment 1M 1% 63mW
Resistor 1Mohm 63mW 1% 0402; Manufacturer: <GENERIC>; Replacement Allowed: Yes; Power: 63mW; Tolerance: 1%; Footprint: R0402; Value: 1M; Supplier 1: Digi-Key; Supplier Part Number 1: 541-1.00MLCT-ND; Manufacturer Part Number: <GENERIC>
footprint RESC1005X40N
pins: 1, 2

## R-6.8R-1%-0402
designator R?, comment 6.8R 1% 63mW
Resistor 6.8ohm 63mW 1% 0402; Manufacturer: <GENERIC>; Replacement Allowed: Yes; Power: 63mW; Tolerance: 1%; Footprint: R0402; Value: 6.8R; Manufacturer Part Number: <GENERIC>; Supplier 1: Digi-Key; Supplier Part Number 1: 541-68.0LCT-ND
footprint RESC1005X40N
pins: 1, 2

## R-10K-1%-0402
designator R?, comment 10K 1% 63mW
Resistor 10Kohm 63mW 1% 0402; MFG: <GENERIC>; Power: 63mW; Tolerance: 1%; Value: 10k; Footprint: R0402; Supplier 1: Digi-Key; Supplier Part Number 1: 541-10.0KLDKR-ND; Footprint Checked: -; Symbol Checked: -; MFG_PN: <GENERIC>
footprint RESC1005X40N
pins: 1, 2

## R-10M-1%-0402
designator R?, comment 10M 1% 63mW
Resistor 10Mohm 63mW 1% 0402; MFG: <GENERIC>; Power: 63mW; Tolerance: 1%; Footprint: R0402; Value: 10M; Footprint Checked: -; MFG_PN: <GENERIC>; Symbol Checked: -; Supplier 1: Digi-Key; Supplier Part Number 1: 541-10.0MLCT-ND
footprint RESC1005X40N
pins: 1, 2

## R-12K-1%-0402
designator R?, comment 12K 1% 63mW
Resistor 12Kohm 63mW 1% 0402; Symbol Checked: T; MFG: <GENERIC>; Power: 63mW; Tolerance: 1%; Footprint: R0402; Value: 12K; Footprint Checked: -; MFG_PN: <GENERIC>; Supplier 1: Digi-Key; Supplier Part Number 1: 541-4063-1-ND
footprint RESC1005X40N
pins: 1, 2

## R-22R-1%-0402
designator R?, comment 22R 1% 63mW
Resistor 22ohm 63mW 1% 0402; Value: 22; MFG: <GENERIC>; Power: 63mW; Tolerance: 1%; Footprint: R0402; Footprint Checked: -; Symbol Checked: -; MFG_PN: <GENERIC>; Supplier 1: Digi-Key; Supplier Part Number 1: 541-22.0LCT-ND
footprint RESC1005X40N
pins: 1, 2

## R-28K-1%-0402
designator R?, comment 28K 1% 63mW
Resistor 28Kohm 63mW 1% 0402; Symbol Checked: T; MFG: <GENERIC>; Power: 63mW; Tolerance: 1%; Footprint: R0402; Value: 28k; Footprint Checked: -; MFG_PN: <GENERIC>; Supplier 1: Digi-Key; Supplier Part Number 1: 541-4852-1-ND
footprint RESC1005X40N
pins: 1, 2

## R-33K-1%-0402
designator R?, comment 33K 1% 63mW
Resistor 33Kohm 63mW 1% 0402; Value: 330; MFG: <GENERIC>; Power: 63mW; Tolerance: 1%; Footprint: R0402; Supplier 1: Digi-Key; Supplier Part Number 1: 541-33.0KLCT-ND; Footprint Checked: -; MFG_PN: <GENERIC>; Symbol Checked: -
footprint RESC1005X40N
pins: 1, 2

## R-40.2K-1%-0402
designator R?, comment 40.2K 1% 63mW
Resistor 40.2Kohm 63mW 1% 0402; Symbol Checked: T; MFG: <GENERIC>; Power: 63mW; Tolerance: 1%; Footprint: R0402; Value: 40.2k; Supplier 1: Digi-Key; Supplier Part Number 1: 541-40.2KLCT-ND; Footprint Checked: -; MFG_PN: <GENERIC>
footprint RESC1005X40N
pins: 1, 2

## R-47K-1%-0402
designator R?, comment 47K 1% 63mW
Resistor 47Kohm 63mW 1% 0402; MFG: <GENERIC>; Power: 63mW; Tolerance: 1%; Footprint: R0402; Value: 47K; Footprint Checked: -; MFG_PN: <GENERIC>; Symbol Checked: -; Supplier 1: Digi-Key; Supplier Part Number 1: 541-47.0KLCT-ND
footprint RESC1005X40N
pins: 1, 2

## R-49.9R-1%-0402
designator R?, comment 49.9R 1% 63mW
Resistor 49.9ohm 63mW 1% 0402; Manufacturer: <GENERIC>; Value: 49.9; Replacement Allowed: Yes; Power: 63mW; Tolerance: 1%; Footprint: R0402; Supplier 1: Digi-Key; Manufacturer Part Number: <GENERIC>; Supplier Part Number 1: 541-49.9LCT-ND
footprint RESC1005X40N
pins: 1, 2

## R-68K-1%-0402_1
designator R?, comment 68K 1% 63mW
Resistor 68Kohm 63mW 1% 0402; Symbol Checked: T; MFG: <GENERIC>; Power: 63mW; Tolerance: 1%; Footprint: R0402; Value: 68K; Footprint Checked: -; MFG_PN: <GENERIC>; Supplier 1: Digi-Key; Supplier Part Number 1: 541-68.0KLCT-ND
footprint RESC1005X40N
pins: 1, 2

## R-75K-1%-0402
designator R?, comment 75K 1% 63mW
Resistor 75Kohm 63mW 1% 0402; MFG: <GENERIC>; Power: 63mW; Tolerance: 1%; Footprint: R0402; Value: 75k; Footprint Checked: -; Symbol Checked: -; MFG_PN: <GENERIC>; Supplier 1: Digi-Key; Supplier Part Number 1: 541-75.0KLCT-ND
footprint RESC1005X40N
pins: 1, 2

## R-100K-1%-0402
designator R?, comment 100K 1% 63mW
Resistor 100Kohm 63mW 1% 0402; Manufacturer: <GENERIC>; Replacement Allowed: Yes; Tolerance: 1%; Value: 100k; Power: 63mW; Footprint: R0402; Manufacturer Part Number: <GENERIC>; Supplier 1: Digi-Key; Supplier Part Number 1: 541-100KLCT-ND
footprint RESC1005X40N
pins: 1, 2

## R-120R-1%-0402
designator R?, comment 120R 1% 63mW
Resistor 120ohm 63mW 1% 0402; MFG: <GENERIC>; Power: 63mW; Tolerance: 1%; Footprint: R0402; Value: 120R; Footprint Checked: -; Symbol Checked: -; MFG_PN: <GENERIC>; Supplier 1: Digi-Key; Supplier Part Number 1: 541-120LCT-ND
footprint RESC1005X40N
pins: 1, 2

## R-137K-1%-0402
designator R?, comment 137K 1% 63mW
Resistor 137Kohm 63mW 1% 0402; Symbol Checked: T; MFG: <GENERIC>; Power: 63mW; Tolerance: 1%; Footprint: R0402; Value: 137k; Supplier 1: Digi-Key; Supplier Part Number 1: 541-137KLCT-ND; Footprint Checked: -; MFG_PN: <GENERIC>
footprint RESC1005X40N
pins: 1, 2

## R-150R-1%-0402
designator R?, comment 150R 1% 63mW
Resistor 150ohm 63mW 1% 0402; MFG: <GENERIC>; Power: 63mW; Tolerance: 1%; Footprint: R0402; Value: 150R; Footprint Checked: -; Symbol Checked: -; MFG_PN: <GENERIC>; Supplier 1: Digi-Key; Supplier Part Number 1: 541-CRCW0402150RFKTDCT-ND
footprint RESC1005X40N
pins: 1, 2

## R-280K-1%-0402
designator R?, comment 280K 1% 63mW
Resistor 280Kohm 63mW 1% 0402; MFG: <GENERIC>; Power: 63mW; Tolerance: 1%; Footprint: R0402; Value: 280k; Supplier 1: Digi-Key; Supplier Part Number 1: 541-280KLCT-ND; Footprint Checked: -; Symbol Checked: -; MFG_PN: <GENERIC>
footprint RESC1005X40N
pins: 1, 2

## R-300K-1%-0402
designator R?, comment 300K 1% 63mW
Resistor 300Kohm 63mW 1% 0402; MFG: <GENERIC>; Power: 63mW; Tolerance: 1%; Footprint: R0402; Value: 300K; Footprint Checked: -; MFG_PN: <GENERIC>; Symbol Checked: -; Supplier 1: Digi-Key; Supplier Part Number 1: 541-4882-1-ND
footprint RESC1005X40N
pins: 1, 2

## R-560R-1%-0402
designator R?, comment value 560  (hidden comment: 560R 1% 63mW)
Resistor 560ohm 63mW 1% 0402; MFG: <GENERIC>; Tolerance: 1%; Power: 63mW; Footprint: R0402; Footprint Checked: -; MFG_PN: <GENERIC>; Symbol Checked: -; Supplier 1: Digi-Key; Supplier Part Number 1: 13-AC0402FR-07560RLCT-ND
footprint RESC1005X40N
pins: 1, 2

## R-680R-1%-0402
designator R?, comment 680R 1% 63mW
Resistor 680ohm 63mW 1% 0402; Value: 680; MFG: <GENERIC>; Power: 63mW; Tolerance: 1%; Footprint: R0402; Footprint Checked: -; Symbol Checked: -; MFG_PN: <GENERIC>; Supplier 1: Digi-Key; Supplier Part Number 1: 541-680LCT-ND
footprint RESC1005X40N
pins: 1, 2

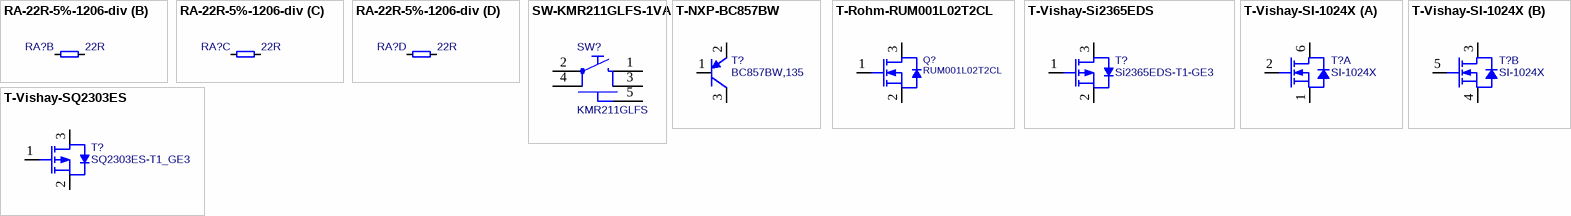
[diagram p3: symbols RA-22R-5%-1206-div to T-Vishay-SQ2303ES]

## RA-22R-5%-1206-div
designator RA?, comment 22R
Resistor Array 22 R 63mW 5% 1206; MFG: Generic; Tolerance: 5%; Value: 22R; Power Dissipation: 63mW; Supplier 1: Digi-Key; Supplier Part Number 1: TC164J-22CT-ND; Footprint Checked: -; Symbol Checked: -
footprint T_Resistor_Array_X4 (Resistor Array 0.8mm)
part A pins: 1, 5
part B pins: 2, 6
part C pins: 3, 7
part D pins: 4, 8

## SW-KMR211GLFS-1VA
designator SW?, comment KMR211GLFS
Power ON Switch; Rating: 1VA; MFG: C&N; Supplier 1: Digi-Key; Supplier Part Number 1: 401-1426-1-ND; Footprint Checked: -; Symbol Checked: -; MFG_PN: KMR211GLFS
footprint T_CnK_KMR211GLFS (Microminiature Tact Switch for SMT)
pins: 1, 2, 3, 4, 5

## T-NXP-BC857BW
designator T?, comment BC857BW,135
PNP Transistor NXP BC857BW,135; FP_DESC: SOT323; MFG: NXP; MFG_PN: BC857BW,135; Footprint Checked: -; Symbol Checked: -; Supplier 1: Digi-Key; Supplier Part Number 1: 1727-1882-1-ND
footprint SOT65P210X110-3N
pins: 1 B, 2 E, 3 C

## T-Rohm-RUM001L02T2CL
designator Q?, comment RUM001L02T2CL
N-Channel 20V 100mA (Ta) 150mW (Ta) Surface Mount VMT3; FP_DESC: SOT-723; MFG: Rohm Semiconductor Inc.; MFG_PN: RUM001L02T2CL; Footprint Checked: Ok; Supplier 1: Digi-Key; Supplier Part Number 1: RUM001L02T2CLCT-ND; Symbol Checked: -
footprint TRANS_RUM001_ROM
pins: 1 G, 2 D, 3 S

## T-Vishay-Si2365EDS
designator T?, comment Si2365EDS-T1-GE3
MOSFET, P channel Vishay Si2365EDS-T1-GE3; FP_DESC: SOT23-3; MFG: VISHAY; MFG_PN: Si2365EDS-T1-GE3; Footprint Checked: -; Symbol Checked: -; Supplier 1: Digi-Key; Supplier Part Number 1: SI2365EDS-T1-GE3CT-ND
footprint SOT95P230X110-3N
pins: 1 G, 2 D, 3 S

## T-Vishay-SI-1024X
designator T?, comment SI-1024X
Mosfet Array 2 N-Channel (Dual) 20V 485mA 250mW Surface Mount SC-89-6; MFG: Vishay; MFG_PN: SI-1024-X; Supplier 1: Digi-Key; Supplier Part Number 1: SI1024X-T1-GE3CT-ND; Footprint Checked: -; Symbol Checked: -
footprint SOTFL50P160X60-6N
part A pins: 1 S, 2 G, 6 D
part B pins: 3 D, 4 S, 5 G

## T-Vishay-SQ2303ES
designator T?, comment SQ2303ES-T1_GE3
P-Channel 30V 2.5A (Tc) 1.9W (Tc) Surface Mount TO-236 (SOT-23); MFG: VISHAY; FP_DESC: SOT23-3; MFG_PN: SQ2303ES-T1_GE3; Footprint Checked: -; Symbol Checked: -; Supplier 1: Digi-Key; Supplier Part Number 1: SQ2303ES-T1_GE3CT-ND
footprint SOT95P230X110-3N
pins: 1 G, 2 D, 3 S